# EAGLE library part MAX21000 (library ModernDevice#1)
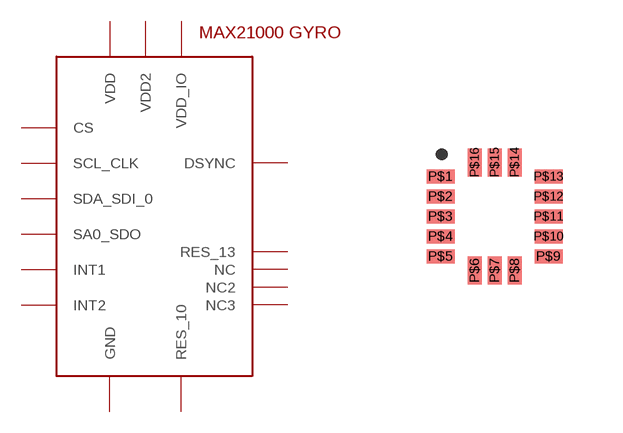
[diagram p76: symbol with the pads of LGA16; footprint LGA16]

Designator prefix -

## MAX21000  [LGA16]
P$1  VDD_IO
P$2  NC
P$3  NC2
P$4  SCL_CLK
P$5  GND
P$6  SDA_SDI_0
P$7  SA0_SDO
P$8  CS
P$9  INT2
P$10  RES_10
P$11  INT1
P$12  DSYNC
P$13  RES_13
P$14  VDD
P$15  VDD2
P$16  NC3

## Footprint LGA16 (pad centres in mm)
smd 0.7 x 0.35: P$1 -1.35,1; P$2 -1.35,0.5; P$3 -1.35,0; P$4 -1.35,-0.5; P$5 -1.35,-1; P$9 1.35,-1; P$10 1.35,-0.5; P$11 1.35,0; P$12 1.35,0.5; P$13 1.35,1
smd 0.35 x 0.7: P$6 -0.5,-1.35; P$7 0,-1.35; P$8 0.5,-1.35; P$14 0.5,1.35; P$15 0,1.35; P$16 -0.5,1.35